# EAGLE library part ISPGDS14 (library my_relai)
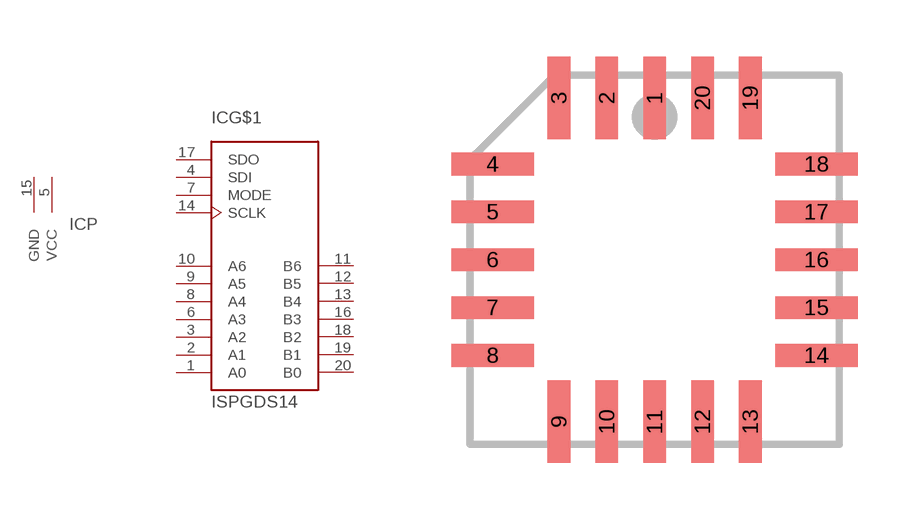
[diagram p4: symbol with the pads of PLCC20S; footprint PLCC20S]

Designator prefix IC; gates P=VCCGND G$1=ISPGDS14

## ISPGDS14  [PLCC20S]
1  G$1:A0
2  G$1:A1
3  G$1:A2
4  G$1:SDI  in
5  P:VCC  sup
6  G$1:A3
7  G$1:MODE  in
8  G$1:A4
9  G$1:A5
10  G$1:A6
11  G$1:B6
12  G$1:B5
13  G$1:B4
14  G$1:SCLK  in
15  P:GND  sup
16  G$1:B3
17  G$1:SDO  out
18  G$1:B2
19  G$1:B1
20  G$1:B0

## Footprint PLCC20S (pad centres in mm)
smd 0.6 x 2.2: 1 0,4.3; 2 -1.27,4.3; 3 -2.54,4.3; 9 -2.54,-4.3; 10 -1.27,-4.3; 11 0,-4.3; 12 1.27,-4.3; 13 2.54,-4.3; 19 2.54,4.3; 20 1.27,4.3
smd 2.2 x 0.6: 4 -4.3,2.54; 5 -4.3,1.27; 6 -4.3,0; 7 -4.3,-1.27; 8 -4.3,-2.54; 14 4.3,-2.54; 15 4.3,-1.27; 16 4.3,0; 17 4.3,1.27; 18 4.3,2.54